# Altium footprint library Fuses.PcbLib: 12 footprints
Each footprint in its own frame and in the unit in brackets; x right, y up, seen from the top. Pads: shape width x height; smd on the part's side, far side on the other; paste and mask are expansions set on the pad; w line width, h text height; cw(c..) or ccw(c..) is an arc to the next point about the centre after c.
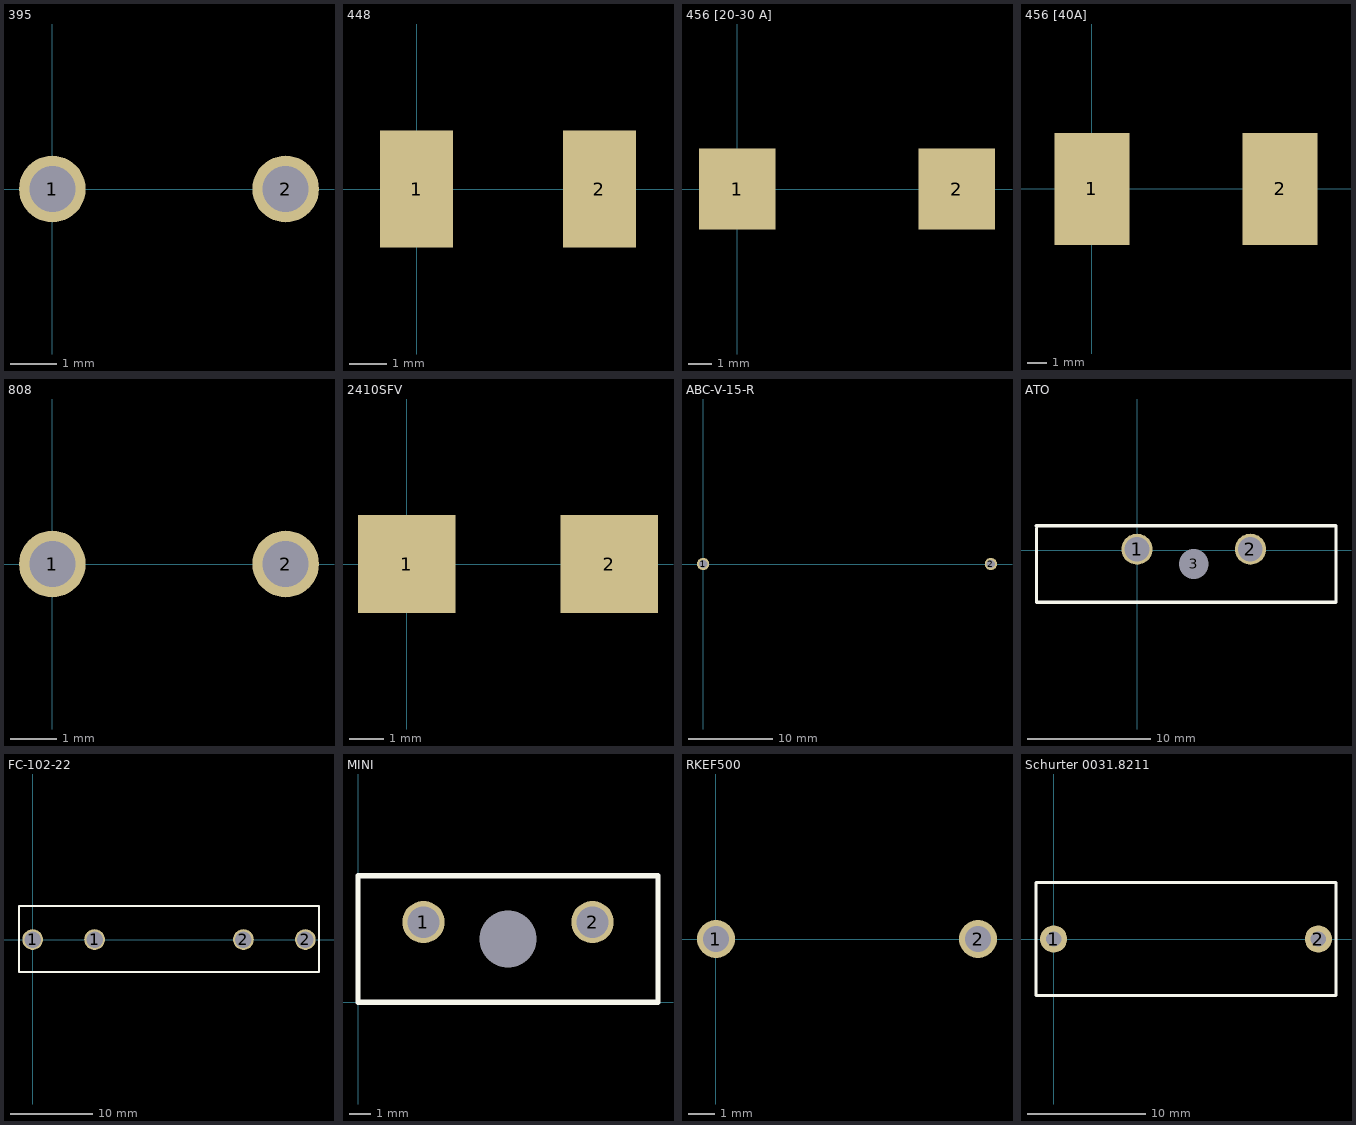
[diagram p0: the footprints below, top view; thin cyan lines are the x and y axes]

## 395 [mm] "LittleFuse 395 Series"
pads (2):
  round 1.45 hole 1: 1(0,0) 2(5.08,0)

## 448 [mm] "LittleFuse 448 Series"
pads (2):
  rect 1.96x3.15 smd: 1(0,0) 2(4.9,0)

## 456 [20-30 A] [mm] "LittleFuse 456 Series"
pads (2):
  rect 3.25x3.43 smd: 1(0,0) 2(9.35,0)

## 456 [40A] [mm] "LittleFuse 456 Series"
pads (2):
  rect 3.79x5.65 smd: 1(0,0) 2(9.51,0)

## 808 [mm] "LittleFuse 808 Series"
pads (2):
  round 1.45 hole 1: 1(0,0) 2(5.08,0)
3D body: height 0.25, standoff 0, extent -2.2,0.8 -2.2,0.8
3D body: height 0.25, standoff 0, extent 0,0 0,0
3D body: height 8.9, standoff 0, extent -2.184,-2.325 7.366,2.325

## 2410SFV [mm] "LittleFuse 2410SFV Series"
pads (2):
  rect 2.8x2.8 smd: 1(0,0) 2(5.8,0)

## ABC-V-15-R [mm] "Bussmann / Eaton ABC-15 Fuse"
pads (2):
  round 1.45 hole 1: 1(0,0) 2(34,0)

## ATO [mm]
pads (3):
  round 2.524 hole 2: 1(0,0.1) 2(9.2,0.1)
  round 1.524 hole 2.4: 3(4.6,-1.1)
Top Overlay:
  lines w0.254: -8.2,2 16.15,2 16.15,-4.2 -8.15,-4.2 -8.15,1.83
3D body: height 27.96, standoff 0, extent -8.1,-4.2 16.15,2

## FC-102-22 [mm] "Fuse Holder"
pads (4):
  round 2.5 hole 2: 1(0,0) 1(7.493,0) 2(25.527,0) 2(33.02,0)
Top Overlay:
  lines w0.254: -1.651,-3.937 34.671,-3.937 34.671,4.064 -1.651,4.064 -1.651,-3.937

## MINI [mm] "LittelFuse MINI series fuse holder"
height 15.6
pads (3):
  round 0 hole 2.7: 0(7.1,3)
  round 2 hole 1.5: 1(3.1,3.8) 2(11.1,3.8)
Top Overlay:
  lines w0.254: 0,0 14.2,0 14.2,6 0,6 0,0

## RKEF500 [mm] "Resettable Fuses - PPTC 60V 40A 5.00W Radial-leaded Device"
pads (2):
  round 1.45 hole 1: 1(0,0) 2(10,0)

## Schurter 0031.8211 [mm] "Schurter fuse holder"
pads (2):
  round 2.3 hole 1.3: 1(0,0) 2(22.5,0)
Top Overlay:
  lines w0.254: -1.5,-4.8 -1.5,4.8 24,4.8 24,-4.8 -1.5,-4.8